# EAGLE library part LZ4-00U610 (library Power_Led)
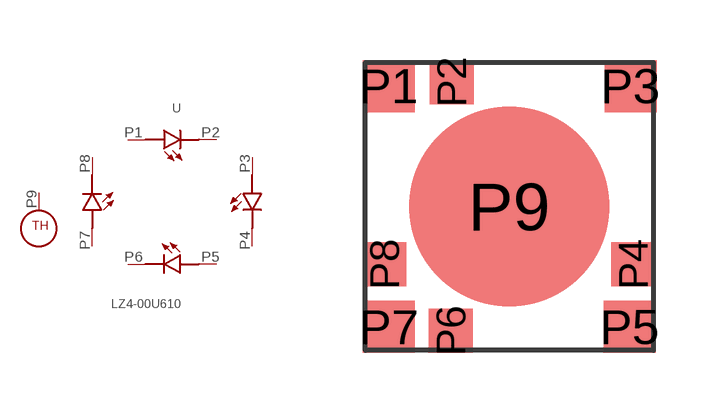
[diagram p0: symbol with the pads of LZ4-00U610; footprint LZ4-00U610]

Designator prefix -

## LZ4-00U610  [LZ4-00U610]
P1  1  pas
P2  2  pas
P3  3  pas
P4  4  pas
P5  5  pas
P6  6  pas
P7  7  pas
P8  8  pas
P9  9  pas

## Footprint LZ4-00U610 (pad centres in mm)
smd 1.3 x 1.3: P1 -3.01,3.01; P3 3.03,3.01; P5 3.01,-3.01; P7 -3.01,-3.01
smd 1.1 x 1.1: P2 -1.44,3.11; P4 3.1,-1.45; P6 -1.46,-3.11; P8 -3.12,-1.45
smd 5 x 5: P9 0,0